# Altium schematic symbol library TPS55165QPWPRQ1.Schlib: 1 symbol
Pins are listed as number, name and electrical type; pins without a type are passive.

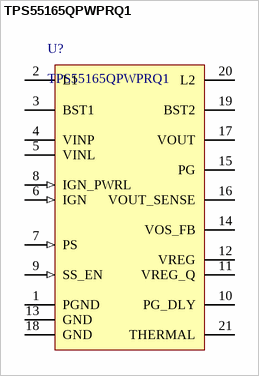
[diagram p0: symbol TPS55165QPWPRQ1]

## TPS55165QPWPRQ1
designator U?
Buck-Boost Switching Regulator IC Positive Fixed 5V, 12V 1 Output 1A 20-PowerTSSOP (0.173", 4.40mm Width)
pins: 1 PGND (power), 2 L1, 3 BST1, 4 VINP (power), 5 VINL (power), 6 IGN (in), 7 PS (in), 8 IGN_PWRL (in), 9 SS_EN (in), 10 PG_DLY, 11 VREG_Q, 12 VREG, 13 GND (power), 14 VOS_FB, 15 PG, 16 VOUT_SENSE, 17 VOUT (power), 18 GND (power), 19 BST2, 20 L2, 21 THERMAL